# Altium footprint library RADIAL.PcbLib: 12 footprints
Each footprint in its own frame and in the unit in brackets; x right, y up, seen from the top. Pads: shape width x height; smd on the part's side, far side on the other; paste and mask are expansions set on the pad; w line width, h text height; cw(c..) or ccw(c..) is an arc to the next point about the centre after c.
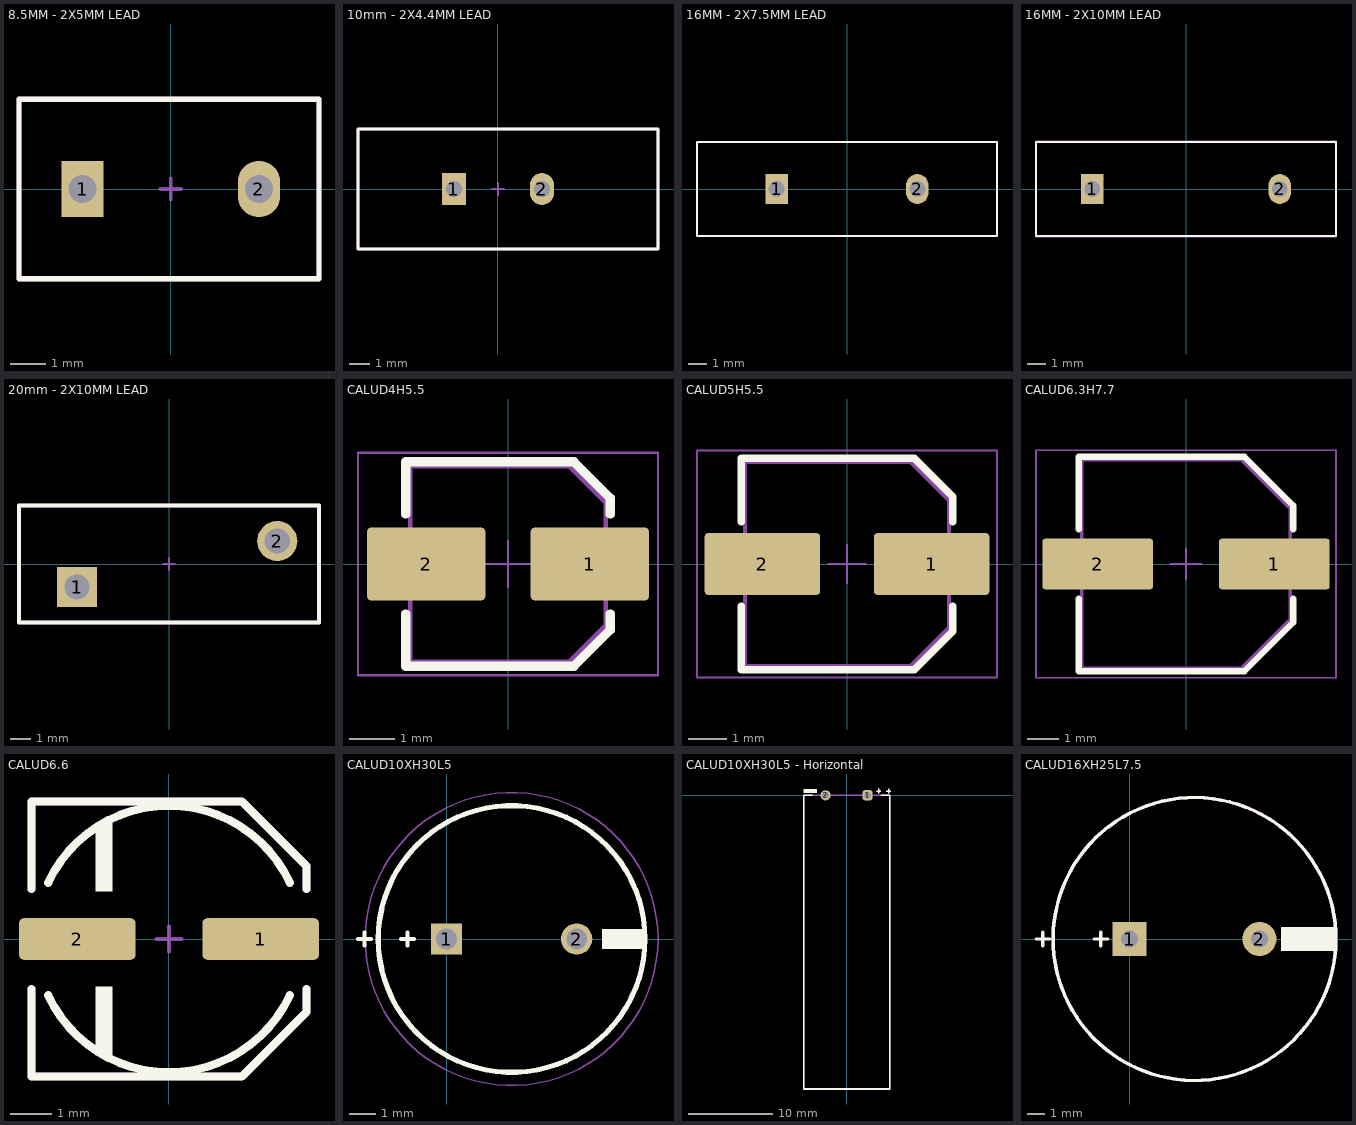
[diagram p0: the footprints below, top view; thin cyan lines are the x and y axes]

## 8.5MM - 2X5MM LEAD [mm]
pads (2):
  rect 1.2x1.6 hole 0.8 mask+0.05: 1(-2.5,0)
  oval 1.2x1.6 hole 0.8 mask+0.05: 2(2.5,0)
Top Overlay:
  lines w0.15: -4.3,-2.54 4.2,-2.54 4.2,2.54 -4.3,2.54 -4.3,-2.54
Mechanical 15:
  lines w0.1: -0.3,0 0.3,0 ; 0,-0.3 0,0.3
Mechanical 29:
  lines w0.15: -4.3,-2.54 -4.3,2.54 4.2,2.54 4.2,-2.54 -4.3,-2.54
  text "'.Designator'" at -2.092,-0.226 h1
3D body "CAP_F_8_5X5P_VIS.step": height 15, standoff -1.87, extent -4.305,-2.502 4.204,2.502

## 10mm - 2X4.4MM LEAD [mm]
pads (2):
  rect 1.2x1.6 hole 0.8 mask+0.05: 1(-2.2,0)
  oval 1.2x1.6 hole 0.8 mask+0.05: 2(2.2,0)
Top Overlay:
  lines w0.15: -6.985,-3 -6.985,3 8.001,3 8.001,-3 -6.985,-3
Mechanical 15:
  lines w0.1: -0.3,0 0.3,0 ; 0,-0.3 0,0.3
Mechanical 29:
  lines w0.15: -6.985,-3 8.001,-3 8.001,3 -6.985,3 -6.985,-3
  text "'.Designator'" at -2.417,-0.226 h1
3D body: height 25, standoff 10, extent -7,-3 8,3
3D body: height 15.5, standoff -2, extent -2.5,-0.3 -1.863,0.339
3D body: height 15.5, standoff -2, extent 1.881,-0.3 2.519,0.339

## 16MM - 2X7.5MM LEAD [mm]
pads (2):
  rect 1.2x1.6 hole 0.85 mask+0.05: 1(-3.75,0)
  oval 1.2x1.6 hole 0.85 mask+0.05: 2(3.75,0)
Top Overlay:
  lines w0.1: -8,-2.5 -8,2.5 8,2.5 8,-2.5 -8,-2.5
Mechanical 29:
  lines w0.1: -8,-2.5 -8,2.5 8,2.5 8,-2.5 -8,-2.5
  text "'.Designator'" at -2.417,-0.226 h1
3D body "VY2103M63Y5UG63V7.stp": height 21.01, standoff -3.99, extent -8,-2.5 8,2.5

## 16MM - 2X10MM LEAD [mm]
pads (2):
  rect 1.2x1.6 hole 0.85 mask+0.05: 1(-5,0)
  oval 1.2x1.6 hole 0.85 mask+0.05: 2(5,0)
Top Overlay:
  lines w0.1: -8,-2.5 8,-2.5 8,2.5 -8,2.5 -8,-2.5
Mechanical 29:
  lines w0.1: -8.001,-2.54 8.001,-2.54 8.001,2.54 -8.001,2.54 -8.001,-2.54
  text "'.Designator'" at -2.417,-0.226 h1
3D body "VY1472M63Y5UQ63V0.stp": height 21.01, standoff -3.99, extent -8,-2.5 8,2.5

## 20mm - 2X10MM LEAD [mm]
pads (2):
  rect 2x2 hole 1.25: 1(-4.593,-1.153)
  round 2 hole 1.25: 2(5.407,1.147)
Top Overlay:
  lines w0.2: -7.493,-2.921 -7.493,2.921 7.493,2.921 7.493,-2.921 -7.493,-2.921
Mechanical 15:
  lines w0.1: -0.3,0 0.3,0 ; 0,-0.3 0,0.3
Mechanical 29:
  lines w0.2: -7.493,-2.921 7.493,-2.921 7.493,2.921 -7.493,2.921 -7.493,-2.921
  text "'.Designator'" at -2.417,-0.226 h1
3D body: height 15.5, standoff -2, extent 5.09,0.828 5.727,1.467
3D body: height 15.5, standoff -2, extent -4.91,-1.472 -4.273,-0.833
3D body: height 25, standoff 10, extent -7.5,-3 7.5,3

## CALUD4H5.5 [mm] "Aluminium Electrolytic V-Chip SMT Capacitors, 4x5.5mm"
height 5.5
pads (2):
  rrect10% 2.6x1.6 smd: 1(1.8,0) 2(-1.8,0)
Top Overlay:
  lines w0.2: -2.25,-1.1 -2.25,-2.25 1.45,-2.25 2.25,-1.45 2.25,-1.1 ; -2.25,1.1 -2.25,2.25 1.45,2.25 2.25,1.45 2.25,1.1
Mechanical 15:
  lines w0.05: -0.5,0 0.5,0 ; 0,-0.5 0,0.5 ; -3.3,-2.45 3.3,-2.45 3.3,2.45 -3.3,2.45 -3.3,-2.45
Mechanical 29:
  lines w0.1: -2.15,-2.15 1.35,-2.15 2.15,-1.35 2.15,1.35 1.35,2.15 -2.15,2.15 -2.15,-2.15
  text "'.Designator'" at -1.813,-0.17 h0.75
3D body "4x5.5x1.stp": height 5.5, standoff 0, extent -2.5,-2.15 2.5,2.15

## CALUD5H5.5 [mm] "Aluminium Electrolytic V-Chip SMT Capacitors, 5x5.5mm"
height 5.5
pads (2):
  rrect10% 3x1.6 smd: 1(2.2,0) 2(-2.2,0)
Top Overlay:
  lines w0.2: -2.75,-1.1 -2.75,-2.75 1.75,-2.75 2.75,-1.75 2.75,-1.1 ; -2.75,1.1 -2.75,2.75 1.75,2.75 2.75,1.75 2.75,1.1
Mechanical 15:
  lines w0.05: -0.5,0 0.5,0 ; 0,-0.5 0,0.5 ; -3.9,-2.95 3.9,-2.95 3.9,2.95 -3.9,2.95 -3.9,-2.95
Mechanical 29:
  lines w0.1: -2.65,-2.65 -2.65,2.65 1.65,2.65 2.65,1.65 2.65,-1.65 1.65,-2.65 -2.65,-2.65
  text "'.Designator'" at -1.813,-0.17 h0.75
3D body "5x5.5x1.4.stp": height 5.5, standoff 0, extent -3,-2.65 3,2.65

## CALUD6.3H7.7 [mm] "Aluminium Electrolytic V-Chip SMT Capacitors, 6.3x7.7mm"
height 7.7
pads (2):
  rrect10% 3.5x1.6 smd: 1(2.8,0) 2(-2.8,0)
Top Overlay:
  lines w0.2: -3.4,-1.1 -3.4,-3.4 1.85,-3.4 3.4,-1.85 3.4,-1.1 ; -3.4,1.1 -3.4,3.4 1.85,3.4 3.4,1.85 3.4,1.1
Mechanical 15:
  lines w0.05: -0.5,0 0.5,0 ; 0,-0.5 0,0.5 ; -4.75,-3.6 -4.75,3.6 4.75,3.6 4.75,-3.6 -4.75,-3.6
Mechanical 29:
  lines w0.1: -3.3,-3.3 1.75,-3.3 3.3,-1.75 3.3,1.75 1.75,3.3 -3.3,3.3 -3.3,-3.3
  text "'.Designator'" at -1.813,-0.17 h0.75
3D body "6.3x7.7x2.2.stp": height 7.7, standoff 0, extent -3.65,-3.3 3.65,3.3

## CALUD6.6 [mm]
pads (2):
  rrect25% 2.8x1 smd mask+0.05: 1(2.2,0) 2(-2.2,0)
Top Overlay:
  region: -1.36,-1.143 -1.76,-1.143 -1.76,-2.8 -1.36,-2.8
  region: -1.36,2.8 -1.76,2.8 -1.76,1.143 -1.36,1.143
  lines w0.2: -3.3,-1.2 -3.3,-3.3 1.75,-3.3 3.3,-1.75 3.3,-1.2 ; -3.3,1.2 -3.3,3.3 1.75,3.3 3.3,1.75 3.3,1.2 ; -2.9,-1.352 ccw(c0,0) 2.9,-1.352 ; -2.9,1.352 cw(c0,0) 2.9,1.352
Mechanical 15:
  lines w0.1: -0.3,0 0.3,0 ; 0,-0.3 0,0.3
Mechanical 29:
  lines w0.2: -3.3,-1.2 -3.3,-3.3 1.75,-3.3 3.3,-1.75 3.3,-1.2 ; -3.3,1.2 -3.3,3.3 1.75,3.3 3.3,1.75 3.3,1.2
  text "'.Designator'" at -2.457,-0.23 h1.02
3D body "User Library-ALU-D8.STEP": height 7.7, standoff 0, extent -3.5,-3.3 3.5,3.3

## CALUD10XH30L5 [mm]
pads (2):
  rect 1.2x1.2 hole 0.8: 1(0,0)
  round 1.2 hole 0.8: 2(5,0)
Top Overlay:
  circle w0.2: c2.5,0 r5.125
  rectangle: 5.969,-0.381 7.62,0.381
  lines w0.15: -3.401,0 -2.901,0 ; -3.151,-0.254 -3.151,0.246 ; -1.75,0 -1.25,0 ; -1.5,-0.254 -1.5,0.246
Mechanical 15:
  circle w0.05: c2.5,0 r5.625
Mechanical 29:
  circle w0.1: c2.5,0 r5.125
  text "'.Designator'" at 0.043,-0.23 h1.02
3D body "User Library-CapAluRadial_D100H300P50.step": height 30.01, standoff -2.99, extent -2.5,-4.999 7.501,4.998

## CALUD10XH30L5 - Horizontal [mm]
pads (2):
  rrect50% 1.2x1.2 hole 0.8: 1(2.5,0)
  round 1.2 hole 0.8: 2(-2.5,0)
Top Overlay:
  rectangle: -5.151,0.246 -3.5,0.746
  lines w0.15: 3.599,0.5 4.099,0.5 ; 3.849,0.246 3.849,0.746 ; 4.75,0.5 5.25,0.5 ; 5,0.246 5,0.746
  lines w0.2: -4.1,0 -5.1,0 -5.1,-35 5.125,-35 5.125,0 4.125,0
Mechanical 29:
  lines w0.2: -5.1,-35 -5.1,0 5.125,0 5.125,-35 -5.1,-35
  text "'.Designator'" at 0.566,-22.05 h2.5
3D body "User Library-CapAluRadial_D100H300P50.step": height 10.1, standoff 0.1, extent -5.001,-35.001 5,-2

## CALUD16XH25L7.5 [mm] "Cap Elec, D16.0X25.0H pitch: 7.6mm, RB.3/.6"
pads (2):
  rect 2x2 hole 1: 1(0,0)
  round 2 hole 1: 2(7.62,0)
Top Overlay:
  rectangle: 8.88,-0.7 12.06,0.7
  lines w0.2: -5.49,0 -4.69,0 ; -5.09,-0.4 -5.09,0.4 ; -2.09,0 -1.29,0 ; -1.69,-0.4 -1.69,0.4 ; 11.958,-1.584 cw(c3.81,0) 11.962,-1.563
Mechanical 29:
  lines w0.2: 11.958,-1.584 cw(c3.81,0) 11.962,-1.563
  text "'.Designator'" at -1.031,-0.453 h2
3D body "User Library-CE_R300_D650_H1000.step": height 25.4, standoff -3.5, extent -4.425,-8.239 12.06,8.239